# EAGLE library part 5560ИН3У (library transceivers)
АЕЯР.431200.765-03 ТУ 5560ИН3У - Параллельно-последовательный преобразователь с передатчиком по стандарту LVDS. Микросхема 5560ИН3У представляет собой параллельно-последовательный преобразователь с передатчиком по стандарту LVDS, преобразующий 10-разрядный код с уровнями КМОП/ТТЛ параллельной шины в последовательную форму для передачи по одному высокоскоростному каналу LVDS.
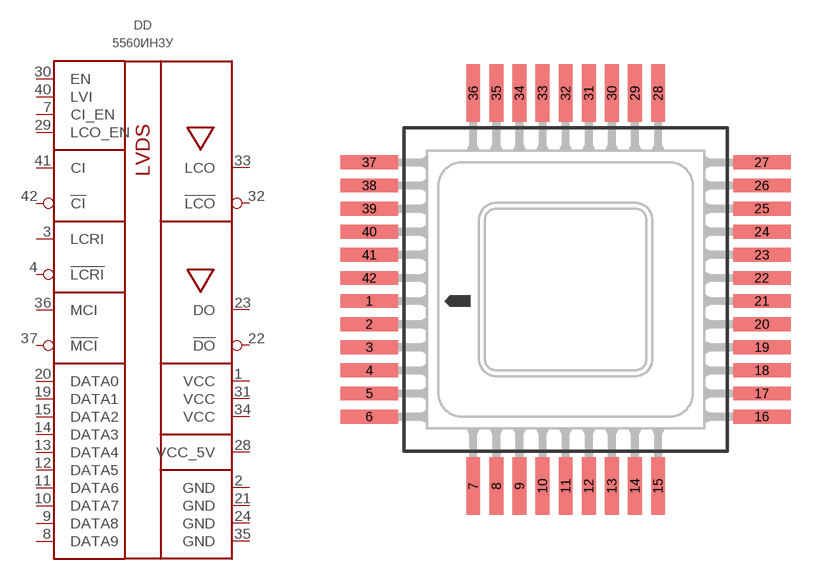
[diagram p11: symbol with the pads of Н14.42-1В; footprint Н14.42-1В]

Designator prefix DD

## 5560ИН3У  [Н14.42-1В]
1  VCC  pwr
2  GND  pwr
3  LCRI  in
4  !LCRI  in
7  CI_EN  in
8  DATA9  in
9  DATA8  in
10  DATA7  in
11  DATA6  in
12  DATA5  in
13  DATA4  in
14  DATA3  in
15  DATA2  in
19  DATA1  in
20  DATA0  in
21  GND  pwr
22  !DO  out
23  DO  out
24  GND  pwr
28  VCC_5V  pwr
29  LCO_EN  in
30  EN  in
31  VCC  pwr
32  !LCO  out
33  LCO  out
34  VCC  pwr
35  GND  pwr
36  MCI  in
37  !MCI  in
40  LVI  in
41  CI  in
42  !CI  in

## Footprint Н14.42-1В (pad centres in mm)
smd 2.5 x 0.6: 1 -8.5,-0.5; 2 -8.5,-1.5; 3 -8.5,-2.5; 4 -8.5,-3.5; 5 -8.5,-4.5; 6 -8.5,-5.5; 16 8.5,-5.5; 17 8.5,-4.5; 18 8.5,-3.5; 19 8.5,-2.5; 20 8.5,-1.5; 21 8.5,-0.5; 22 8.5,0.5; 23 8.5,1.5; 24 8.5,2.5; 25 8.5,3.5; 26 8.5,4.5; 27 8.5,5.5; 37 -8.5,5.5; 38 -8.5,4.5; 39 -8.5,3.5; 40 -8.5,2.5; 41 -8.5,1.5; 42 -8.5,0.5
smd 0.6 x 2.5: 7 -4,-8.5; 8 -3,-8.5; 9 -2,-8.5; 10 -1,-8.5; 11 0,-8.5; 12 1,-8.5; 13 2,-8.5; 14 3,-8.5; 15 4,-8.5; 28 4,8.5; 29 3,8.5; 30 2,8.5; 31 1,8.5; 32 0,8.5; 33 -1,8.5; 34 -2,8.5; 35 -3,8.5; 36 -4,8.5